# EAGLE library part 66200611122 (library Wire-to-Board (rev18a))
WR-MPC3 3.00mm Male Single Row Vertical Header, 6 Pins=>Code : Con_WTB_MPC3_1_PCB_66200611122 <http://katalog.we-online.de/media/thumbs2/eican/thb_Con_WTB_MPC3_1_PCB_6620xx11122_pf2.jpg> Details see: http://katalog.we-online.de/en/em/MPC3_3_00_MALE_SINGLE_ROW_VERTICAL_HEADER_6620XX11122 Created 2014-06-06, Karrer Zheng 2014 (C) Würth Elektronik
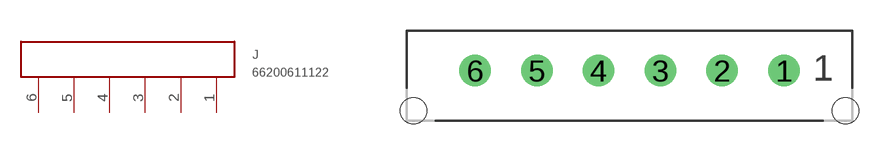
[diagram p326: symbol with the pads of 66200611122; footprint 66200611122]

Designator prefix J

## 66200611122  [66200611122]
1  6  pas
2  5  pas
3  4  pas
4  3  pas
5  2  pas
6  1  pas

## Footprint 66200611122 (pad centres in mm)
WR-MPC3 3.00mm Male Single Row Vertical Header, 6 Pins
drill 1.02: 1 7.5,0; 2 4.5,0; 3 1.5,0; 4 -1.5,0; 5 -4.5,0; 6 -7.5,0
hole 1.27 at 10.5,-1.96
hole 1.27 at -10.5,-1.96